# Altium footprint library C 传感器.PcbLib: 26 footprints (part 2 of 2)
Each footprint in its own frame and in the unit in brackets; x right, y up, seen from the top. Pads: shape width x height; smd on the part's side, far side on the other; paste and mask are expansions set on the pad; w line width, h text height; cw(c..) or ccw(c..) is an arc to the next point about the centre after c.
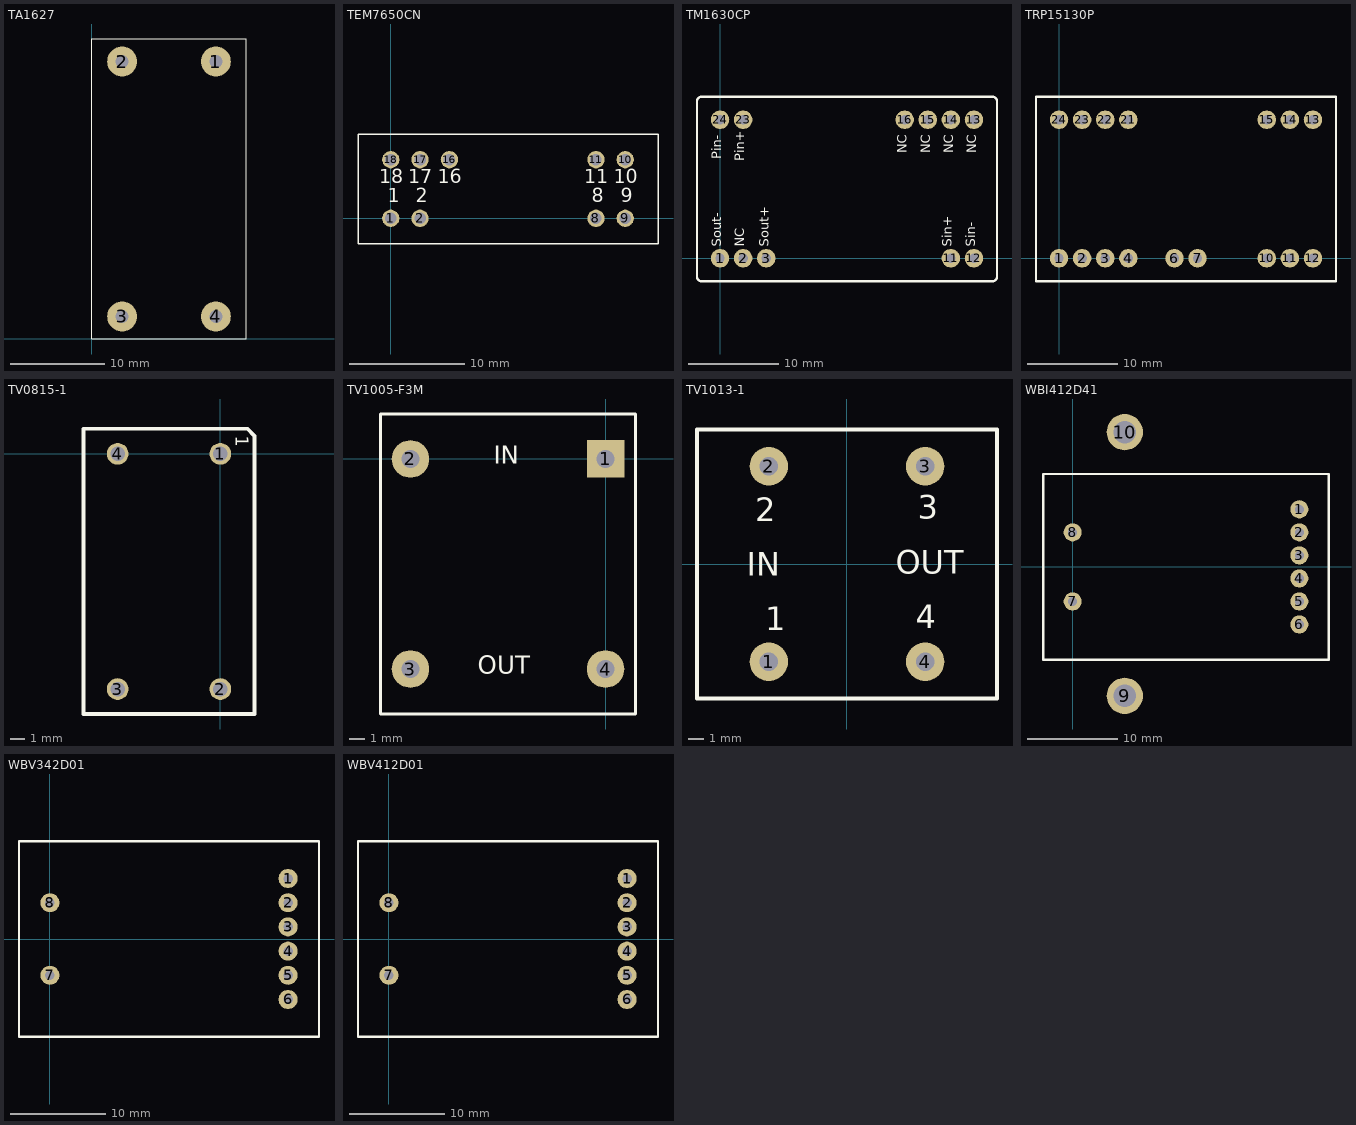
[diagram p1: the footprints below, top view; thin cyan lines are the x and y axes]

## TA1627 [mm]
height 2.13
pads (4):
  round 3.2 hole 1.4: 1(13.25,29.6) 2(3.25,29.6) 3(3.25,2.4) 4(13.25,2.4)
Top Overlay:
  lines w0.127: 0,0 0,32 16.5,32 16.5,0 0,0

## TEM7650CN [mm]
pads (9):
  round 1.5 hole 1: 1(0,0) 2(2.54,0) 8(17.78,0) 9(20.32,0) 10(20.32,5.08) 11(17.78,5.08) 16(5.08,5.08) 17(2.54,5.08) 18(0,5.08)
Top Overlay:
  lines w0.127: -2.84,-2.21 -2.84,7.29 23.16,7.29 23.16,-2.21 -2.84,-2.21
  text "1" at -0.254,1.016 h2.03
  text "2" at 2.159,1.016 h2.03
  text "8" at 17.399,1.016 h2.03
  text "9" at 19.939,1.016 h2.03
  text "11" at 16.764,2.667 h2.03
  text "10" at 19.304,2.667 h2.03
  text "16" at 4.064,2.667 h2.03
  text "17" at 1.524,2.667 h2.03
  text "18" at -1.016,2.667 h2.03
Bottom Overlay:
  text "10" at 21.336,2.667 h2.03
  text "11" at 18.796,2.667 h2.03
  text "9" at 20.701,1.016 h2.03
  text "8" at 18.161,1.016 h2.03
  text "16" at 6.096,2.667 h2.03
  text "17" at 3.556,2.667 h2.03
  text "18" at 1.016,2.667 h2.03
  text "2" at 2.921,1.016 h2.03
  text "1" at 0.254,1.016 h2.03

## TM1630CP [mil]
pads (11):
  round 80 hole 40: 1(0,0) 2(100,0) 3(200,0) 11(1000,0) 12(1100,0) 13(1100,600) 14(1000,600) 15(900,600) 16(800,600) 23(100,600) 24(0,600)
Top Overlay:
  lines w10: -100,-80 ccw(c-80,-80) -80,-100 1180,-100 ccw(c1180,-80) 1200,-80 1200,600 1200,680 ccw(c1180,680) 1180,700 -80,700 ccw(c-80,680) -100,680 -100,-80
  text "Sout-" at 20,50 h70
  text "NC" at 120,50 h70
  text "Sout+" at 225,50 h70
  text "Sin+" at 1020,50 h70
  text "Sin-" at 1120,50 h70
  text "NC" at 825,455 h70
  text "NC" at 925,455 h70
  text "NC" at 1025,455 h70
  text "NC" at 1125,455 h70
  text "Pin+" at 120,420 h70
  text "Pin-" at 20,430 h70
Bottom Overlay:
  text "Sout-" at 20,210 h70
  text "Sout+" at 225,220 h70
  text "NC" at 120,140 h70
  text "Sin-" at 1120,180 h70
  text "Sin+" at 1020,180 h70
  text "NC" at 1125,545 h70
  text "NC" at 1025,545 h70
  text "NC" at 925,545 h70
  text "NC" at 825,545 h70
  text "Pin+" at 120,550 h70
  text "Pin-" at 20,550 h70

## TRP15130P [mil]
height 669.29
pads (16):
  round 80 hole 40: 1(0,0) 2(100,0) 3(200,0) 4(300,0) 6(500,0) 7(600,0) 10(900,0) 11(1000,0) 12(1100,0) 13(1100,600) 14(1000,600) 15(900,600) 21(300,600) 22(200,600) 23(100,600) 24(0,600)
Top Overlay:
  lines w10: -100,-100 1200,-100 1200,600 1200,700 -100,700 -100,-100
Bottom Overlay:
  text "A" at 20,535 h65
  text "B" at 120,535 h65
  text "B" at 220,535 h65
  text "IO+" at 920,535 h65
  text "IO-" at 1120,535 h65
  text "FB2" at 280,65 h65
  text "ZA2" at 80,65 h65
  text "ZA1" at -20,65 h65
  text "FB1" at 180,65 h65
  text "VD" at 480,65 h65
  text "GND" at 580,65 h65

## TV0815-1 [mil]
pads (4):
  round 60 hole 40: 1(0,0) 2(0,-649.61) 3(-283.46,-649.61) 4(-283.46,0)
Top Overlay:
  lines w10: -377.95,-718.5 -377.95,-94.49 -377.95,68.9 75,68.9 75.08,68.9 94.49,49.49 94.49,-718.5 -377.95,-718.5
  text "1" at 30,50 h60
Bottom Overlay:
  text "1" at 30,35 h60

## TV1005-F3M [mm] "BingZi传感器"
height 14
pads (4):
  rect 2.5x2.5 hole 1.2: 1(0,0)
  round 2.5 hole 1.2: 2(-13,0) 3(-13,-14) 4(0,-14)
Top Overlay:
  lines w0.203: -15,-17 -15,3 2,3 2,-17 -15,-17
  text "OUT" at -8.504,-14.732 h2.03
  text "IN" at -7.437,-0.711 h2.03

## TV1013-1 [mm]
pads (4):
  round 2.5 hole 1.2: 1(-5.08,-6.35) 2(-5.08,6.35) 3(5.08,6.35) 4(5.08,-6.35)
Top Overlay:
  lines w0.254: -9.75,-6.35 -9.75,-8.75 ; -9.75,-8.75 9.75,-8.75 9.75,8.75 -9.75,8.75 -9.75,-8.75
  text "OUT" at 3.175,-0.635 h1.52
  text "IN" at -6.501,-0.778 h1.52
  text "1" at -5.305,-4.305 h1.52
  text "2" at -5.969,2.794 h1.52
  text "3" at 4.601,2.934 h1.52
  text "4" at 4.474,-4.178 h1.52

## WBI412D41 [mm] "传感器"
pads (10):
  round 2 hole 1: 1(25,6.35) 2(25,3.81) 3(25,1.27) 4(25,-1.27) 5(25,-3.81) 6(25,-6.35) 7(0,-3.81) 8(0,3.81)
  round 4 hole 2.5: 9(5.75,-14.224) 10(5.75,14.859)
Top Overlay:
  lines w0.254: -3.25,-10.25 28.25,-10.25 28.25,10.25 -3.25,10.25 -3.25,-10.25

## WBV342D01 [mm] "传感器"
pads (8):
  round 2 hole 1: 1(25,6.35) 2(25,3.81) 3(25,1.27) 4(25,-1.27) 5(25,-3.81) 6(25,-6.35) 7(0,-3.81) 8(0,3.81)
Top Overlay:
  lines w0.254: -3.25,-10.25 28.25,-10.25 28.25,10.25 -3.25,10.25 -3.25,-10.25

## WBV412D01 [mm] "传感器"
pads (8):
  round 2 hole 1: 1(25,6.35) 2(25,3.81) 3(25,1.27) 4(25,-1.27) 5(25,-3.81) 6(25,-6.35) 7(0,-3.81) 8(0,3.81)
Top Overlay:
  lines w0.254: -3.25,-10.25 -3.25,10.25 28.25,10.25 28.25,-10.25 -3.25,-10.25